# EAGLE library part IC_RTC_DS1307 (library dp_devices)
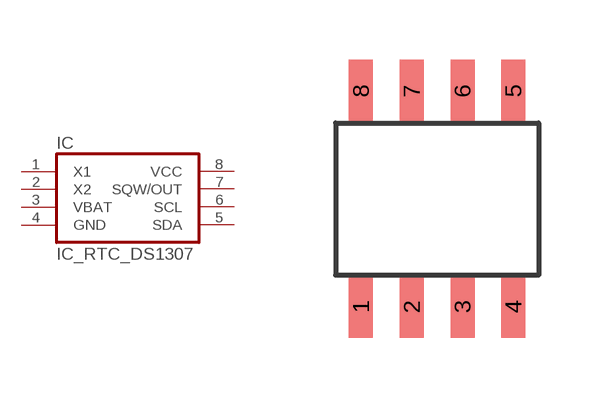
[diagram p59: symbol with the pads of SO-8; footprint SO-8]

Designator prefix IC

## IC_RTC_DS1307  [SO-8]
1  X1
2  X2
3  VBAT
4  GND
5  SDA
6  SCL
7  SQW/OUT
8  VCC

## Footprint SO-8 (pad centres in mm)
smd 0.6 x 1.55: 1 -1.905,-2.69; 2 -0.635,-2.69; 3 0.635,-2.69; 4 1.905,-2.69; 5 1.905,2.71; 6 0.635,2.71; 7 -0.635,2.71; 8 -1.905,2.71